# Altium footprint library PCB-TINYSDK2-1148.PCBLIB: 9 footprints
Each footprint in its own frame and in the unit in brackets; x right, y up, seen from the top. Pads: shape width x height; smd on the part's side, far side on the other; paste and mask are expansions set on the pad; w line width, h text height; cw(c..) or ccw(c..) is an arc to the next point about the centre after c.
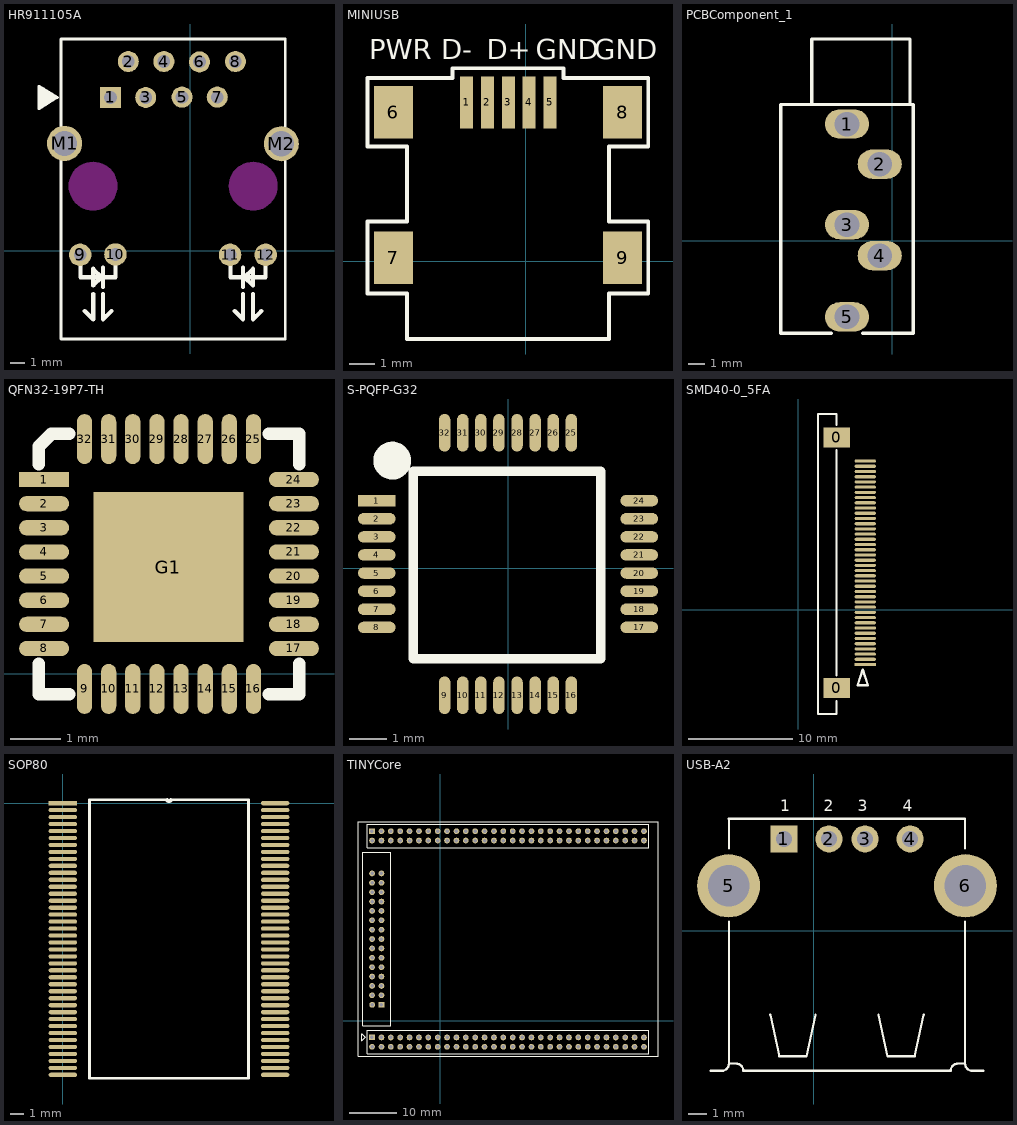
[diagram p0: the footprints below, top view; thin cyan lines are the x and y axes]

## HR911105A [mil]
pads (16):
  rect 59.06x59.06 hole 35.43: 1(-224,431)
  round 59.06 hole 35.43: 2(-174,532) 3(-125,431) 4(-74,532) 5(-23,432) 6(26,531) 7(76,432) 8(127,532)
  round 62.99 hole 35.43: 9(-309.16,-11) 10(-210,-10) 11(112,-11) 12(212,-11)
  round 137.8 on Keep-Out: " "(-273,182) " "(177,182)
  round 98.43 hole 70.87: M1(-353,302) M2(256,301)
Top Overlay:
  lines w7.9: -363.17,-247.48 266.83,-247.48 ; -363.17,-246.88 -363.17,595.32 266.83,595.32 266.83,-246.88 ; -424.37,399.62 -424.37,462.62 -373.17,431.12 -424.37,399.62
  lines w11.81: -308.01,-42.48 -308.01,-73.97 -209.59,-73.97 -209.59,-42.48 ; -296.2,-168.46 -272.58,-192.08 -272.58,-121.22 ; -245.02,-121.22 -245.02,-192.08 -221.4,-168.46 ; -245.02,-101.53 -245.02,-46.41 ; 113.25,-42.48 113.25,-73.97 211.67,-73.97 211.67,-42.48 ; 125.06,-168.46 148.68,-192.08 148.68,-121.22 ; 148.68,-101.53 148.68,-46.41 ; 176.24,-121.22 176.24,-192.08 199.86,-168.46 ; -272.58,-97.59 -248.96,-73.97 -272.58,-50.35 -272.58,-97.59 ; 152.62,-73.97 176.24,-97.59 176.24,-50.35 152.62,-73.97
  lines w23.6: -416.07,448.12 -414.77,415.92 -389.57,431.32 -416.07,448.12

## MINIUSB [mil]
pads (9):
  rect 20x80 smd: 1(-91,243) 2(-59,243) 3(-27,243) 4(5,243) 5(37,243)
  rect 60x80 smd: 6(-203,228) 7(-203,5) 8(148,228) 9(148,5)
Top Overlay:
  lines w6: -242.53,-49.46 -182.53,-49.46 -182.53,-119.46 127.47,-119.46 127.47,-49.46 187.47,-49.46 187.47,60.54 127.47,60.54 127.47,175.54 187.47,175.54 187.47,280.54 57.47,280.54 57.47,295.54 -112.53,295.54 -112.53,280.54 -242.53,280.54 -242.53,175.54 -182.53,175.54 -182.53,60.54 -242.53,60.54 -242.53,-49.46
  text "PWR" at -240.17,309.32 h31
  text "D-" at -130.17,309.32 h31
  text "D+" at -60.17,309.32 h31
  text "GND" at 104.83,309.32 h31
  text "GND" at 14.83,309.32 h31

## PCBComponent_1 [mm]
pads (5):
  oval 2.7x1.8 hole 1.5: 1(-2.78,7.144) 2(-0.78,4.694) 3(-2.78,0.994) 4(-0.78,-0.906) 5(-2.78,-4.656)
Top Overlay:
  lines w0.2: -4.93,8.344 -4.93,12.344 1.07,12.344 1.07,8.344 ; -3.73,-5.656 -6.83,-5.656 -6.83,8.344 1.27,8.344 1.27,-5.656 -1.83,-5.656

## QFN32-19P7-TH [mil]
pads (33):
  rect 39.37x12 smd: 1(-244.91,153)
  oval 39.37x12 smd: 2(-244.91,134) 3(-244.91,115) 4(-244.91,96) 5(-244.91,77) 6(-244.91,58) 7(-244.91,39) 8(-244.91,20) 17(-48.09,20) 18(-48.09,39) 19(-48.09,58) 20(-48.09,77) 21(-48.09,96) 22(-48.09,115) 23(-48.09,134) 24(-48.09,153)
  oval 12x39.37 smd: 9(-213,-11.91) 10(-194,-11.91) 11(-175,-11.91) 12(-156,-11.91) 13(-137,-11.91) 14(-118,-11.91) 15(-99,-11.91) 16(-80,-11.91) 25(-80,184.91) 26(-99,184.91) 27(-118,184.91) 28(-137,184.91) 29(-156,184.91) 30(-175,184.91) 31(-194,184.91) 32(-213,184.91)
  rect 118.11x118.11 smd: G1(-147,84)
Top Overlay:
  lines w10: -249,8 -249,-16 -225,-16 ; -249,165 -249,179 -239,189 -225,189 ; -68,189 -44,189 -44,165 ; -54,-16 -68,-16 -44,-16 -44,8 -44,-6

## S-PQFP-G32 [mil] "TVP5150"
pads (32):
  rect 39.37x12 smd: 1(-138.28,71)
  oval 39.37x12 smd: 2(-138.28,52) 3(-138.28,33) 4(-138.28,14) 5(-138.28,-5) 6(-138.28,-24) 7(-138.28,-43) 8(-138.28,-62) 17(137.28,-62) 18(137.28,-43) 19(137.28,-24) 20(137.28,-5) 21(137.28,14) 22(137.28,33) 23(137.28,52) 24(137.28,71)
  oval 12x39.37 smd: 9(-67,-133.28) 10(-48,-133.28) 11(-29,-133.28) 12(-10,-133.28) 13(9,-133.28) 14(28,-133.28) 15(47,-133.28) 16(66,-133.28) 25(66,142.28) 26(47,142.28) 27(28,142.28) 28(9,142.28) 29(-10,142.28) 30(-29,142.28) 31(-48,142.28) 32(-67,142.28)
Top Overlay:
  circle w19.68: c-122,113 r10
  lines w10: -100,101.85 -100,-95 96.85,-95 ; -99.85,102 97,102 97,-94.85

## SMD40-0_5FA [mil]
pads (42):
  rect 100x75 smd: 0(145,-294) 0(145,651)
  rect 80x12 smd: 1(253,-206)
  oval 80x12 smd: 2(253,-186.31) 3(253,-166.63) 4(253,-146.94) 5(253,-127.26) 6(253,-107.58) 7(253,-87.89) 8(253,-68.2) 9(253,-48.52) 10(253,-28.84) 11(253,-9.15) 12(253,10.54) 13(253,30.22) 14(253,49.91) 15(253,69.59) 16(253,89.28) 17(253,108.96) 18(253,128.65) 19(253,148.33) 20(253,168.01) 21(253,187.7) 22(253,207.38) 23(253,227.07) 24(253,246.75) 25(253,266.44) 26(253,286.12) 27(253,305.81) 28(253,325.5) 29(253,345.18) 30(253,364.87) 31(253,384.55) 32(253,404.24) 33(253,423.92) 34(253,443.61) 35(253,463.29) 36(253,482.98) 37(253,502.66) 38(253,522.35) 39(253,542.03) 40(253,561.72)
Top Overlay:
  lines w8: 145.01,-343.99 145.01,-392.63 75.13,-392.63 75.13,739.26 145.01,739.26 145.01,698.01 ; 145,-248 145,604 ; 260.63,-284.37 223.75,-284.37 243.44,-225.31 263.12,-284.37

## SOP80 [mil]
pads (80):
  rect 80x12 smd: 1(0,0)
  oval 80x12 smd: 2(0,-19.68) 3(0,-39.37) 4(0,-59.05) 5(0,-78.74) 6(0,-98.42) 7(0,-118.11) 8(0,-137.79) 9(0,-157.48) 10(0,-177.16) 11(0,-196.85) 12(0,-216.53) 13(0,-236.22) 14(0,-255.91) 15(0,-275.59) 16(0,-295.27) 17(0,-314.96) 18(0,-334.64) 19(0,-354.33) 20(0,-374.01) 21(0,-393.7) 22(0,-413.38) 23(0,-433.07) 24(0,-452.75) 25(0,-472.44) 26(0,-492.12) 27(0,-511.81) 28(0,-531.5) 29(0,-551.18) 30(0,-570.87) 31(0,-590.55) 32(0,-610.24) 33(0,-629.92) 34(0,-649.61) 35(0,-669.29) 36(0,-688.98) 37(0,-708.66) 38(0,-728.35) 39(0,-748.03) 40(0,-767.72) 41(600,-767.72) 42(600,-748.03) 43(600,-728.35) 44(600,-708.66) 45(600,-688.98) 46(600,-669.29) 47(600,-649.61) 48(600,-629.92) 49(600,-610.24) 50(600,-590.55) 51(600,-570.87) 52(600,-551.18) 53(600,-531.5) 54(600,-511.81) 55(600,-492.12) 56(600,-472.44) 57(600,-452.75) 58(600,-433.07) 59(600,-413.38) 60(600,-393.7) 61(600,-374.01) 62(600,-354.33) 63(600,-334.64) 64(600,-314.96) 65(600,-295.27) 66(600,-275.59) 67(600,-255.91) 68(600,-236.22) 69(600,-216.53) 70(600,-196.85) 71(600,-177.16) 72(600,-157.48) 73(600,-137.79) 74(600,-118.11) 75(600,-98.42) 76(600,-78.74) 77(600,-59.05) 78(600,-39.37) 79(600,-19.68) 80(600,0)
Top Overlay:
  lines w8: 295.08,9.84 75,9.84 75,-777.56 525,-777.56 525,9.84 304.92,9.84
  lines w10: 295.08,9.84 ccw(c300,9.84) 304.92,9.84

## TINYCore [mil]
pads (150):
  rect 48x48 hole 29.92: A1(-575,1590) B1(-575,-140) C1(-495.25,133.87)
  round 48 hole 29.92: A2(-574.13,1512.25) A3(-495.39,1590.99) A4(-495.39,1512.25) A5(-416.65,1590.99) A6(-416.65,1512.25) A7(-337.91,1590.99) A8(-337.91,1512.25) A9(-259.17,1590.99) A10(-259.17,1512.25) A11(-180.43,1590.99) A12(-180.43,1512.25) A13(-101.69,1590.99) A14(-101.69,1512.25) A15(-22.95,1590.99) A16(-22.95,1512.25) A17(55.79,1590.99) A18(55.79,1512.25) A19(134.53,1590.99) A20(134.53,1512.25) A21(213.27,1590.99) A22(213.27,1512.25) A23(292.01,1590.99) A24(292.01,1512.25) A25(370.75,1590.99) A26(370.75,1512.25) A27(449.49,1590.99) A28(449.49,1512.25) A29(528.23,1590.99) A30(528.23,1512.25) A31(606.97,1590.99) A32(606.97,1512.25) A33(685.71,1590.99) A34(685.71,1512.25) A35(764.45,1590.99) A36(764.45,1512.25) A37(843.19,1590.99) A38(843.19,1512.25) A39(921.93,1590.99) A40(921.93,1512.25) A41(1000.67,1590.99) A42(1000.67,1512.25) A43(1079.41,1590.99) A44(1079.41,1512.25) A45(1158.15,1590.99) A46(1158,1512) A47(1236.89,1590.99) A48(1236.89,1512.25) A49(1315.63,1590.99) A50(1315.63,1512.25) A51(1394.37,1590.99) A52(1394.37,1512.25) A53(1473.11,1590.99) A54(1473.11,1512.25) A55(1551.85,1590.99) A56(1551.85,1512.25) A57(1630.59,1590.99) A58(1630.59,1512.25) A59(1709.33,1590.99) A60(1709.33,1512.25) B2(-574.13,-220.03) B3(-495.39,-141.29) B4(-495.39,-220.03) B5(-416.65,-141.29) B6(-416.65,-220.03) B7(-337.91,-141.29) B8(-337.91,-220.03) B9(-259.17,-141.29) B10(-259.17,-220.03) B11(-180.43,-141.29) B12(-180.43,-220.03) B13(-101.69,-141.29) B14(-101.69,-220.03) B15(-22.95,-141.29) B16(-22.95,-220.03) B17(55.79,-141.29) B18(55.79,-220.03) B19(134.53,-141.29) B20(134.53,-220.03) B21(213.27,-141.29) B22(213.27,-220.03) B23(292.01,-141.29) B24(292.01,-220.03) B25(370.75,-141.29) B26(370.75,-220.03) B27(449.49,-141.29) B28(449.49,-220.03) B29(528.23,-141.29) B30(528.23,-220.03) B31(606.97,-141.29) B32(606.97,-220.03) B33(685.71,-141.29) B34(685.71,-220.03) B35(764.45,-141.29) B36(764.45,-220.03) B37(843.19,-141.29) B38(843.19,-220.03) B39(921.93,-141.29) B40(921.93,-220.03) B41(1000.67,-141.29) B42(1000.67,-220.03) B43(1079.41,-141.29) B44(1079.41,-220.03) B45(1158,-141) B46(1158.15,-220.03) B47(1236.89,-141.29) B48(1236.89,-220.03) B49(1315.63,-141.29) B50(1315.63,-220.03) B51(1394.37,-141.29) B52(1394.37,-220.03) B53(1473.11,-141.29) B54(1473,-220) B55(1551.85,-141.29) B56(1551.85,-220.03) B57(1630.59,-141.29) B58(1630.59,-220.03) B59(1709.33,-141.29) B60(1709.33,-220.03) C2(-573,133) C3(-495.25,212.61) C4(-573.99,212.61) C5(-495.25,291.35) C6(-573.99,291.35) C7(-495.25,370.09) C8(-573.99,370.09) C9(-495.25,448.83) C10(-573.99,448.83) C11(-495.25,527.57) C12(-573.99,527.57) C13(-495.25,606.31) C14(-573.99,606.31) C15(-495.25,685.05) C16(-573.99,685.05) C17(-495.25,763.79) C18(-573.99,763.79) C19(-495.25,842.53) C20(-573.99,842.53) C21(-495.25,921.27) C22(-573.99,921.27) C23(-495.25,1000.01) C24(-573.99,1000.01) C25(-495.25,1078.75) C26(-573.99,1078.75) C27(-495.25,1157.49) C28(-573.99,1157.49) C29(-495.25,1236.23) C30(-573.99,1236.23)
Top Overlay:
  lines w5: -692.24,-298.77 1827.46,-298.77 1827.46,1669.73 -692.24,1669.73 -692.24,-298.77 ; -662.24,-168.77 -632.24,-138.77 -662.24,-108.77 -662.24,-168.77
  lines w7.83: -652.87,-42.86 -416.65,-42.86 -416.65,1413.83 -652.87,1413.83 -652.87,-42.86
  lines w7.87: -613.5,-279.09 -613.5,-82.23 1748.7,-82.23 1748.7,-279.09 -613.5,-279.09 ; -613.5,1453.19 -613.5,1650.05 1748.7,1650.05 1748.7,1453.19 -613.5,1453.19

## USB-A2 [mm]
pads (6):
  rect 1.5x1.5 hole 0.9: 1(-1.664,5.099)
  round 1.5 hole 0.9: 2(0.837,5.099) 3(2.837,5.099) 4(5.336,5.099)
  round 3.5 hole 2.3: 5(-4.734,2.501) 6(8.406,2.501)
Top Overlay:
  lines w0.127: -5.714,-7.759 -5.014,-7.759 -5.114,-7.759 ccw(c-5.114,-7.359) -4.714,-7.359 ; -4.724,6.223 8.382,6.223 ; -4.714,0.502 -4.714,-7.359 ; -4.714,4.566 -4.714,6.217 ; -2.414,-4.659 -1.914,-6.959 -0.414,-6.959 0.086,-4.659 ; 3.586,-4.659 4.086,-6.959 5.586,-6.959 6.086,-4.659 ; 8.386,0.502 8.386,-7.359 ; 8.386,4.566 8.386,6.217 ; 9.386,-7.759 8.786,-7.759 cw(c8.786,-7.359) 8.386,-7.359 ; -4.714,-7.359 -4.314,-7.359 cw(c-4.314,-7.759) -3.914,-7.759 7.586,-7.759 cw(c7.986,-7.759) 7.986,-7.359 8.386,-7.359
  text "4" at 4.936,6.623 h0.64
  text "3" at 2.436,6.623 h0.64
  text "2" at 0.536,6.623 h0.64
  text "1" at -1.863,6.623 h0.64